# Altium schematic symbol library CAS-120A1.SchLib: 1 symbol
Pins are listed as number, name and electrical type; pins without a type are passive.

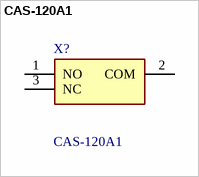
[diagram p0: symbol CAS-120A1]

## CAS-120A1
designator X?
Surface Mount Slide Switch Single Pole Double Throw (SPDT) 100 (Non-Switching) mA, 100 (Switching) mA Slide; Manufacturer_Name: Nidec Copal; Geometry.Height: 2.5mm; Mouser Part Number: 229-CAS-120A1; Mouser Price/Stock: https://www.mouser.co.uk/ProductDetail/Nidec-Components/CAS-120A1?qs=XeJtXLiO41SLHVe%252BE1BF5w%3D%3D; Manufacturer_Part_Number: CAS-120A1; Datasheet Link: https://www.nidec-copal-electronics.com/e/catalog/switch/cas.pdf
footprint CAS120A1
pins: 1 NO, 2 COM, 3 NC